# Altium footprint library RESC3116X65N.PcbLib: 1 footprints
Each footprint in its own frame and in the unit in brackets; x right, y up, seen from the top. Pads: shape width x height; smd on the part's side, far side on the other; paste and mask are expansions set on the pad; w line width, h text height; cw(c..) or ccw(c..) is an arc to the next point about the centre after c.
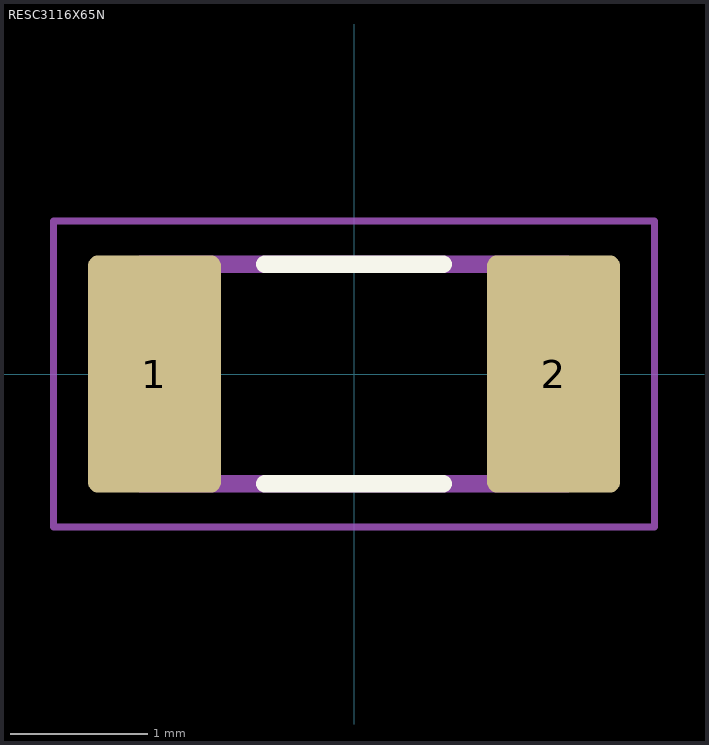
[diagram p0: the footprint, top view; thin cyan lines are the x and y axes]

## RESC3116X65N [mm]
height 0.65
pads (2):
  rrect15% 0.97x1.73 smd: 1(-1.455,0) 2(1.455,0)
Top Overlay:
  lines w0.127: -0.65,-0.8 0.65,-0.8 ; -0.65,0.8 0.65,0.8
Assembly Top:
  lines w0.127: -1.55,-0.8 1.55,-0.8 1.55,0.8 -1.55,0.8 -1.55,-0.8
Courtyard Top:
  lines w0.05: -2.19,-1.115 -2.19,1.115 2.19,1.115 2.19,-1.115 -2.19,-1.115
3D body "step_temp.STEP": height 0.65, standoff 0, extent -1.55,-0.8 1.55,0.8